# EAGLE library part 74AC540 (library DMFlib)
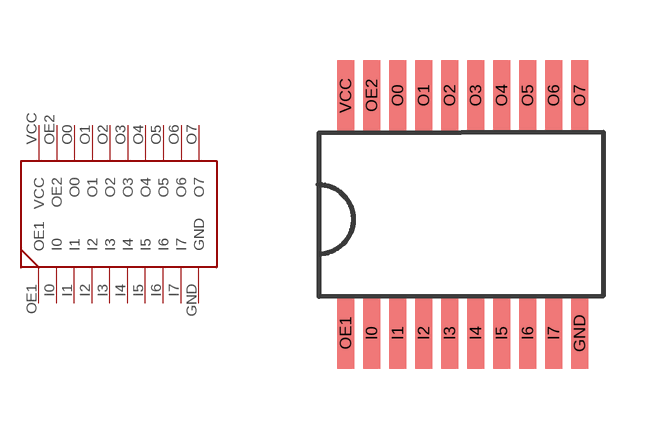
[diagram p2: symbol with the pads of SO20W; footprint SO20W]

Designator prefix -

## 74AC540  [SO20W]
GND  GND
I0  I0
I1  I1
I2  I2
I3  I3
I4  I4
I5  I5
I6  I6
I7  I7
O0  O0
O1  O1
O2  O2
O3  O3
O4  O4
O5  O5
O6  O6
O7  O7
OE1  OE1
OE2  OE2
VCC  VCC

## Footprint SO20W (pad centres in mm)
Wide Small Outline package 300 mil
smd 0.42 x 1.78: GND 5.85,0; I0 0.65,0; I1 1.3,0; I2 1.95,0; I3 2.6,0; I4 3.25,0; I5 3.9,0; I6 4.55,0; I7 5.2,0; O0 1.3,5.94; O1 1.95,5.94; O2 2.6,5.94; O3 3.25,5.94; O4 3.9,5.94; O5 4.55,5.94; O6 5.2,5.94; O7 5.85,5.94; OE1 0,0; OE2 0.65,5.94; VCC 0,5.94